# Altium integrated library Analog Devices Data Converters Analog-to-Digital Converters.IntLib: 2404 symbols (part 70 of 346)
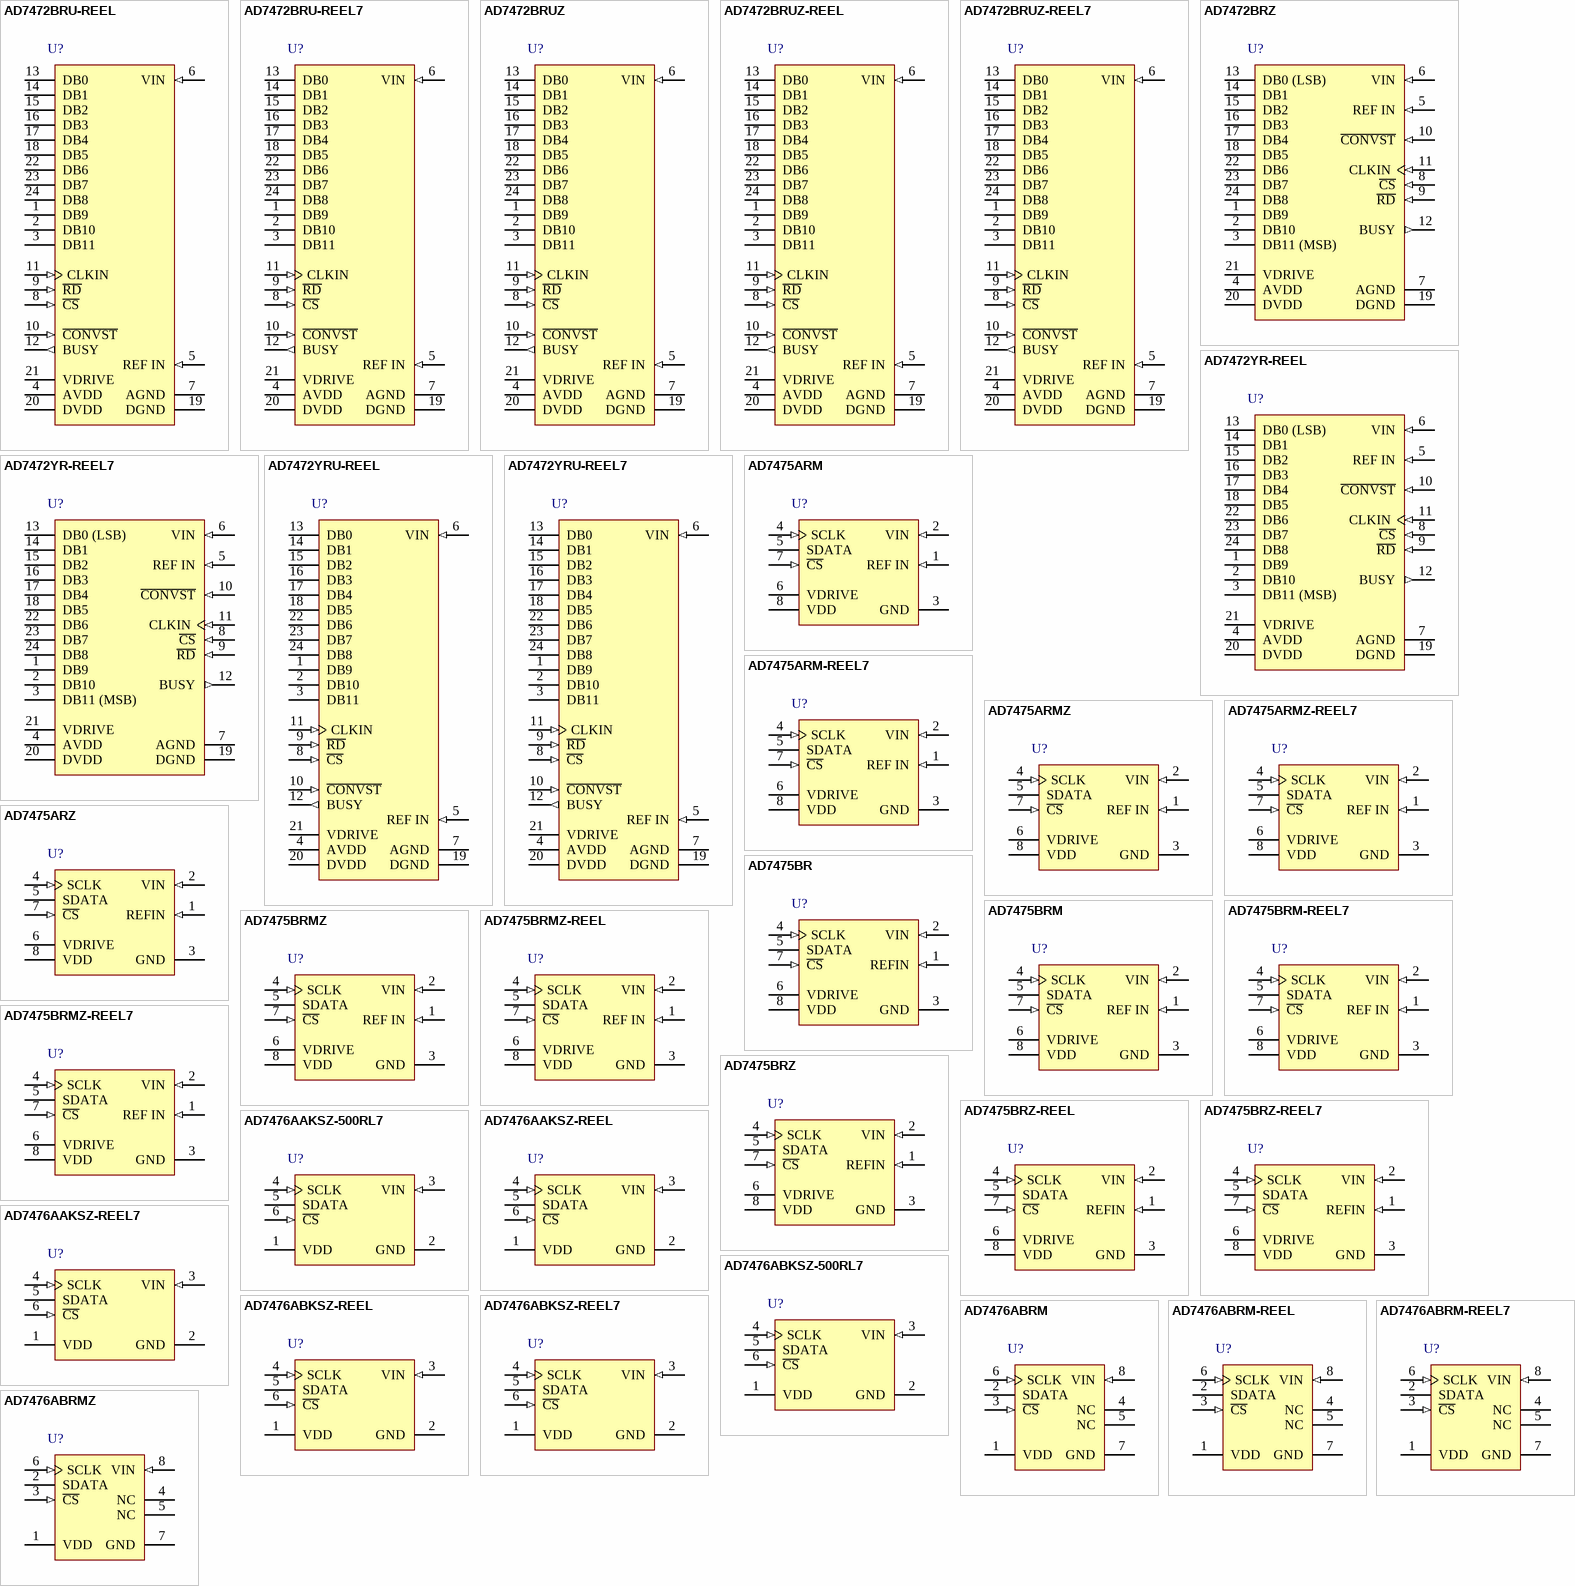
[diagram p193: symbols AD7472BRU-REEL to AD7476ABRMZ]

## AD7472YRU-REEL7
designator U?
Single 12-Bit Analog-to-Digital Converter with Parallel Interface, 4 mW, 1.5MSPS, -40 to +125 degC, RU-24, Reel; Generic Part Number: AD7472; Manufacturer: Analog Devices; PartNumber: AD7472YRU-REEL7; Resolution (Bits): 12; Channels: 1; Throughput Rate (SPS): 1.5M; Interface: Par; DatasheetVersion: Rev.B; PackageVersion: 2002; PackageReference: RU-24; PackageDescription: 24-Lead Thin Shrink Small Outline Package [TSSOP]; Supplier 1: Digi-Key; Supplier Part Number 1: AD7472YRU-REEL7TR-ND; Supplier 2: Digi-Key; Supplier Part Number 2: AD7472YRU-REEL7CT-ND; Supplier 3: Digi-Key; Supplier Part Number 3: AD7472YRU-REEL7DKR-ND; Supplier 4: Mouser; Supplier Part Number 4: 584-AD7472YRU-R7; RoHS: N; Packing: Reel; Mounting Technology: Surface Mount; Code_JEDEC: MO-153-AD; ComponentLink1Description: Manufacturer URL; ComponentLink1URL: http://www.analog.com/en/index.html; ComponentLink2Description: Datasheet; ComponentLink2URL: http://www.analog.com/static/imported-files/data_sheets/AD7470_7472.pdf; ComponentLink3Description: Package Specification; ComponentLink3URL: http://www.analog.com/static/imported-files/packages/380523655245964505593671154107510036154RU24.pdf; ComponentLink4Description: Product URL; ComponentLink4URL: http://www.analog.com/en/analog-to-digital-converters/ad-converters/ad7472/products/product.html
footprint RU-24_N (TSOP, 24-Leads, Body 7.8x4.4mm, Pitch 0.65mm, IPC Medium Density)
footprint RU-24_L (TSOP, 24-Leads, Body 7.8x4.4mm, Pitch 0.65mm, IPC High Density)
footprint RU-24_M (TSOP, 24-Leads, Body 7.8x4.4mm, Pitch 0.65mm, IPC Low Density)
pins: 1 DB9 (hiz) "Parallel digital outputs that provide the conversion result for the part. These are three-state outputs that are controlled by C\S\ and R\D\. The output high voltage level for these outputs is determined by the VDRIVE input.", 2 DB10 (hiz) "Parallel digital outputs that provide the conversion result for the part. These are three-state outputs that are controlled by C\S\ and R\D\. The output high voltage level for these outputs is determined by the VDRIVE input.", 3 DB11 (hiz) "Parallel digital outputs that provide the conversion result for the part. These are three-state outputs that are controlled by C\S\ and R\D\. The output high voltage level for these outputs is determined by the VDRIVE input.", 4 AVDD (power) "Analog Supply Voltage, 2.7 V to 5.25 V. This is the only supply voltage for all analog circuitry on the AD7472. The AVDD and DVDD voltages should ideally be at the same potential and must not be more than 0.3 V apart even on (See Datasheet)", 5 REF IN (in) "Reference Input. An external reference must be applied to this input. The voltage range for the external reference is 2.5 V +/-1% for specified performance.", 6 VIN (in) "Analog Input. Single-ended analog input channel. The input range is 0 V to REF IN. The analog input presents a high dc input impedance.", 7 AGND (power) "Analog Ground. Ground reference point for all analog circuitry on the AD7472. All analog input signals and any external reference signal should be referred to this AGND voltage. The AGND and DGND voltages should ideally be (See Datasheet)", 8 ~{CS} (in) "Chip Select. Active low logic input used in conjunction with R\D\ to access the conversion result. The conversion result is placed on the data bus following the falling edge of both C\S\ and R\D\. C\S\ and R\D\ are both (See Datasheet)", 9 ~{RD} (in) "Read Input. Logic input used in conjunction with C\S\ to access the conversion result. The conversion result is placed on the data bus following the falling edge of both C\S\ and R\D\. C\S\ and R\D\ are both connected to (See Datasheet)", 10 ~{CONVST} (in) "Conversion Start Input. Logic input used to initiate conversion. The input track-and-hold amplifier goes from track mode to hold mode on the falling edge of C\O\N\V\S\T\, and the conversion process is initiated at this point.(See Datasheet)", 11 CLKIN (in) "Master Clock Input. The clock source for the conversion process is applied to this pin. Conversion time for the AD7472 takes 14 clock cycles, and conversion time for the AD7470 takes 12 clock cycles. The frequency of this (See Datasheet)", 12 BUSY (out) "BUSY Output. Logic output indicating the status of the conversion process. The BUSY signal goes high after the falling edge of C\O\N\V\S\T\ and stays high for the duration of conversion. Once conversion is complete and the (See Datasheet)", 13 DB0 (hiz) "Parallel digital outputs that provide the conversion result for the part. These are three-state outputs that are controlled by C\S\ and R\D\. The output high voltage level for these outputs is determined by the VDRIVE input.", 14 DB1 (hiz) "Parallel digital outputs that provide the conversion result for the part. These are three-state outputs that are controlled by C\S\ and R\D\. The output high voltage level for these outputs is determined by the VDRIVE input.", 15 DB2 (hiz) "Parallel digital outputs that provide the conversion result for the part. These are three-state outputs that are controlled by C\S\ and R\D\. The output high voltage level for these outputs is determined by the VDRIVE input.", 16 DB3 (hiz) "Parallel digital outputs that provide the conversion result for the part. These are three-state outputs that are controlled by C\S\ and R\D\. The output high voltage level for these outputs is determined by the VDRIVE input.", 17 DB4 (hiz) "Parallel digital outputs that provide the conversion result for the part. These are three-state outputs that are controlled by C\S\ and R\D\. The output high voltage level for these outputs is determined by the VDRIVE input.", 18 DB5 (hiz) "Parallel digital outputs that provide the conversion result for the part. These are three-state outputs that are controlled by C\S\ and R\D\. The output high voltage level for these outputs is determined by the VDRIVE input.", 19 DGND (power) "Digital Ground. This is the ground reference point for all digital circuitry on the AD7472. The DGND and AGND voltages should ideally be at the same potential and must not be more than 0.3 V apart even on a transient basis.", 20 DVDD (power) "Digital Supply Voltage, 2.7 V to 5.25 V. This is the supply voltage for all digital circuitry on the AD7472 aside from the output drivers. The DVDD and AVDD voltages should ideally be at the same potential and must not be (See Datasheet)", 21 VDRIVE (power) "Supply Voltage for the Output Drivers, 2.7 V to 5.25 V. This voltage determines the output high voltage for the data output pins. It allows AVDD and DVDD to operate at 5 V (and maximize the dynamic performance of the (ADC), (See Datasheet)", 22 DB6 (hiz) "Parallel digital outputs that provide the conversion result for the part. These are three-state outputs that are controlled by C\S\ and R\D\. The output high voltage level for these outputs is determined by the VDRIVE input.", 23 DB7 (hiz) "Parallel digital outputs that provide the conversion result for the part. These are three-state outputs that are controlled by C\S\ and R\D\. The output high voltage level for these outputs is determined by the VDRIVE input.", 24 DB8 (hiz) "Parallel digital outputs that provide the conversion result for the part. These are three-state outputs that are controlled by C\S\ and R\D\. The output high voltage level for these outputs is determined by the VDRIVE input."

## AD7475ARM
designator U?
Single 12-Bit Analog-to-Digital Converter with Serial Interface, 1MSPS, -40 to +85 degC, RM-8, Tube; Generic Part Number: AD7475; Manufacturer: Analog Devices; PartNumber: AD7475ARM; Resolution (Bits): 12; Channels: 1; Throughput Rate (SPS): 1M; Interface: Ser; DatasheetVersion: Rev.B; PackageVersion: Aug-2005; PackageReference: RM-8; PackageDescription: 8-Lead Mini Small Outline Package [MSOP]; Supplier 1: Digi-Key; Supplier Part Number 1: AD7475ARM-ND; RoHS: N; Packing: Tube; Mounting Technology: Surface Mount; Code_JEDEC: MO-187-AA; ComponentLink1Description: Manufacturer URL; ComponentLink1URL: http://www.analog.com/en/index.html; ComponentLink2Description: Datasheet; ComponentLink2URL: http://www.analog.com/static/imported-files/data_sheets/AD7475_7495.pdf; ComponentLink3Description: Package Specification; ComponentLink3URL: http://www.analog.com/static/imported-files/packages/PKG_PDF/MSOP%28RM%29/RM_8.pdf; ComponentLink4Description: Product URL; ComponentLink4URL: http://www.analog.com/en/analog-to-digital-converters/ad-converters/ad7475/products/product.html
footprint RM-8_N (TSOP, 8-Leads, Body 3x3mm, Pitch 0.65mm, IPC Medium Density)
footprint RM-8_L (TSOP, 8-Leads, Body 3x3mm, Pitch 0.65mm, IPC High Density)
footprint RM-8_M (TSOP, 8-Leads, Body 3x3mm, Pitch 0.65mm, IPC Low Density)
pins: 1 REF IN (in) "Reference Input for the AD7475. An external reference must be applied to this input. The voltage range for the external reference is 2.5 V +/- 1% for specified performance. A cap of a least 0.1 uF should be placed on the REF (See Datasheet)", 2 VIN (in) "Analog Input. Single-ended analog input channel. The input range is 0 to REF IN.", 3 GND (power) "Analog Ground. Ground reference point for all circuitry on the AD7475/AD7495. All analog input signals and any external reference signal should be referred to this GND voltage.", 4 SCLK (in) "Serial Clock, Logic Input. SCLK provides the serial clock for accessing data from the part. This clock input is also used as the clock source for the AD7475/AD7495 conversion process.", 5 SDATA (hiz) "Data Out, Logic Output. The conversion result from the AD7475/AD7495 is provided on this output as a serial data stream. The bits are clocked out on the falling edge of the SCLK input. The data stream consists of four (See Datasheet)", 6 VDRIVE (power) "Logic Power Supply Input. The voltage supplied at this pin determines the operating voltage for the serial interface of the AD7475/AD7495.", 7 ~{CS} (in) "Chip Select, Active Low Logic Input. This input provides the dual function of initiating conversions on the AD7475/AD7495 and also frames the serial data transfer.", 8 VDD (power) "Power Supply Input. The VDD range for the AD7475/AD7495 is from 2.7 V to 5.25 V."

## AD7475ARM-REEL7
designator U?
Single 12-Bit Analog-to-Digital Converter with Serial Interface, 1MSPS, -40 to +85 degC, RM-8, Reel; Generic Part Number: AD7475; Manufacturer: Analog Devices; PartNumber: AD7475ARM-REEL7; Resolution (Bits): 12; Channels: 1; Throughput Rate (SPS): 1M; Interface: Ser; DatasheetVersion: Rev.B; PackageVersion: Aug-2005; PackageReference: RM-8; PackageDescription: 8-Lead Mini Small Outline Package [MSOP]; Supplier 1: Digi-Key; Supplier Part Number 1: AD7475ARM-REEL7-ND; RoHS: N; Packing: Reel; Mounting Technology: Surface Mount; Code_JEDEC: MO-187-AA; ComponentLink1Description: Manufacturer URL; ComponentLink1URL: http://www.analog.com/en/index.html; ComponentLink2Description: Datasheet; ComponentLink2URL: http://www.analog.com/static/imported-files/data_sheets/AD7475_7495.pdf; ComponentLink3Description: Package Specification; ComponentLink3URL: http://www.analog.com/static/imported-files/packages/PKG_PDF/MSOP%28RM%29/RM_8.pdf; ComponentLink4Description: Product URL; ComponentLink4URL: http://www.analog.com/en/analog-to-digital-converters/ad-converters/ad7475/products/product.html
footprint RM-8_N (TSOP, 8-Leads, Body 3x3mm, Pitch 0.65mm, IPC Medium Density)
footprint RM-8_L (TSOP, 8-Leads, Body 3x3mm, Pitch 0.65mm, IPC High Density)
footprint RM-8_M (TSOP, 8-Leads, Body 3x3mm, Pitch 0.65mm, IPC Low Density)
pins: 1 REF IN (in) "Reference Input for the AD7475. An external reference must be applied to this input. The voltage range for the external reference is 2.5 V +/- 1% for specified performance. A cap of a least 0.1 uF should be placed on the REF (See Datasheet)", 2 VIN (in) "Analog Input. Single-ended analog input channel. The input range is 0 to REF IN.", 3 GND (power) "Analog Ground. Ground reference point for all circuitry on the AD7475/AD7495. All analog input signals and any external reference signal should be referred to this GND voltage.", 4 SCLK (in) "Serial Clock, Logic Input. SCLK provides the serial clock for accessing data from the part. This clock input is also used as the clock source for the AD7475/AD7495 conversion process.", 5 SDATA (hiz) "Data Out, Logic Output. The conversion result from the AD7475/AD7495 is provided on this output as a serial data stream. The bits are clocked out on the falling edge of the SCLK input. The data stream consists of four (See Datasheet)", 6 VDRIVE (power) "Logic Power Supply Input. The voltage supplied at this pin determines the operating voltage for the serial interface of the AD7475/AD7495.", 7 ~{CS} (in) "Chip Select, Active Low Logic Input. This input provides the dual function of initiating conversions on the AD7475/AD7495 and also frames the serial data transfer.", 8 VDD (power) "Power Supply Input. The VDD range for the AD7475/AD7495 is from 2.7 V to 5.25 V."

## AD7475ARMZ
designator U?
Single 12-Bit Analog-to-Digital Converter with Serial Interface, 1MSPS, -40 to +85 degC, RM-8, Pb-Free, Tube; Generic Part Number: AD7475; Manufacturer: Analog Devices; PartNumber: AD7475ARMZ; Resolution (Bits): 12; Channels: 1; Throughput Rate (SPS): 1M; Interface: Ser; DatasheetVersion: Rev.B; PackageVersion: Aug-2005; PackageReference: RM-8; PackageDescription: 8-Lead Mini Small Outline Package [MSOP]; Supplier 1: Digi-Key; Supplier Part Number 1: AD7475ARMZ-ND; Supplier 2: Mouser; Supplier Part Number 2: 584-AD7475ARMZ; RoHS: Y; Packing: Tube; Mounting Technology: Surface Mount; Code_JEDEC: MO-187-AA; ComponentLink1Description: Manufacturer URL; ComponentLink1URL: http://www.analog.com/en/index.html; ComponentLink2Description: Datasheet; ComponentLink2URL: http://www.analog.com/static/imported-files/data_sheets/AD7475_7495.pdf; ComponentLink3Description: Package Specification; ComponentLink3URL: http://www.analog.com/static/imported-files/packages/PKG_PDF/MSOP%28RM%29/RM_8.pdf; ComponentLink4Description: Product URL; ComponentLink4URL: http://www.analog.com/en/analog-to-digital-converters/ad-converters/ad7475/products/product.html
footprint RM-8_N (TSOP, 8-Leads, Body 3x3mm, Pitch 0.65mm, IPC Medium Density)
footprint RM-8_L (TSOP, 8-Leads, Body 3x3mm, Pitch 0.65mm, IPC High Density)
footprint RM-8_M (TSOP, 8-Leads, Body 3x3mm, Pitch 0.65mm, IPC Low Density)
pins: 1 REF IN (in) "Reference Input for the AD7475. An external reference must be applied to this input. The voltage range for the external reference is 2.5 V +/- 1% for specified performance. A cap of a least 0.1 uF should be placed on the REF (See Datasheet)", 2 VIN (in) "Analog Input. Single-ended analog input channel. The input range is 0 to REF IN.", 3 GND (power) "Analog Ground. Ground reference point for all circuitry on the AD7475/AD7495. All analog input signals and any external reference signal should be referred to this GND voltage.", 4 SCLK (in) "Serial Clock, Logic Input. SCLK provides the serial clock for accessing data from the part. This clock input is also used as the clock source for the AD7475/AD7495 conversion process.", 5 SDATA (hiz) "Data Out, Logic Output. The conversion result from the AD7475/AD7495 is provided on this output as a serial data stream. The bits are clocked out on the falling edge of the SCLK input. The data stream consists of four (See Datasheet)", 6 VDRIVE (power) "Logic Power Supply Input. The voltage supplied at this pin determines the operating voltage for the serial interface of the AD7475/AD7495.", 7 ~{CS} (in) "Chip Select, Active Low Logic Input. This input provides the dual function of initiating conversions on the AD7475/AD7495 and also frames the serial data transfer.", 8 VDD (power) "Power Supply Input. The VDD range for the AD7475/AD7495 is from 2.7 V to 5.25 V."

## AD7475ARMZ-REEL7
designator U?
Single 12-Bit Analog-to-Digital Converter with Serial Interface, 1MSPS, -40 to +85 degC, RM-8, Pb-Free, Reel; Generic Part Number: AD7475; Manufacturer: Analog Devices; PartNumber: AD7475ARMZ-REEL7; Resolution (Bits): 12; Channels: 1; Throughput Rate (SPS): 1M; Interface: Ser; DatasheetVersion: Rev.B; PackageVersion: Aug-2005; PackageReference: RM-8; PackageDescription: 8-Lead Mini Small Outline Package [MSOP]; Supplier 1: Digi-Key; Supplier Part Number 1: AD7475ARMZ-REEL7TR-ND; Supplier 2: Digi-Key; Supplier Part Number 2: AD7475ARMZ-REEL7CT-ND; Supplier 3: Digi-Key; Supplier Part Number 3: AD7475ARMZ-REEL7DKR-ND; Supplier 4: Mouser; Supplier Part Number 4: 584-AD7475ARMZ-R7; RoHS: Y; Packing: Reel; Mounting Technology: Surface Mount; Code_JEDEC: MO-187-AA; ComponentLink1Description: Manufacturer URL; ComponentLink1URL: http://www.analog.com/en/index.html; ComponentLink2Description: Datasheet; ComponentLink2URL: http://www.analog.com/static/imported-files/data_sheets/AD7475_7495.pdf; ComponentLink3Description: Package Specification; ComponentLink3URL: http://www.analog.com/static/imported-files/packages/PKG_PDF/MSOP%28RM%29/RM_8.pdf; ComponentLink4Description: Product URL; ComponentLink4URL: http://www.analog.com/en/analog-to-digital-converters/ad-converters/ad7475/products/product.html
footprint RM-8_N (TSOP, 8-Leads, Body 3x3mm, Pitch 0.65mm, IPC Medium Density)
footprint RM-8_L (TSOP, 8-Leads, Body 3x3mm, Pitch 0.65mm, IPC High Density)
footprint RM-8_M (TSOP, 8-Leads, Body 3x3mm, Pitch 0.65mm, IPC Low Density)
pins: 1 REF IN (in) "Reference Input for the AD7475. An external reference must be applied to this input. The voltage range for the external reference is 2.5 V +/- 1% for specified performance. A cap of a least 0.1 uF should be placed on the REF (See Datasheet)", 2 VIN (in) "Analog Input. Single-ended analog input channel. The input range is 0 to REF IN.", 3 GND (power) "Analog Ground. Ground reference point for all circuitry on the AD7475/AD7495. All analog input signals and any external reference signal should be referred to this GND voltage.", 4 SCLK (in) "Serial Clock, Logic Input. SCLK provides the serial clock for accessing data from the part. This clock input is also used as the clock source for the AD7475/AD7495 conversion process.", 5 SDATA (hiz) "Data Out, Logic Output. The conversion result from the AD7475/AD7495 is provided on this output as a serial data stream. The bits are clocked out on the falling edge of the SCLK input. The data stream consists of four (See Datasheet)", 6 VDRIVE (power) "Logic Power Supply Input. The voltage supplied at this pin determines the operating voltage for the serial interface of the AD7475/AD7495.", 7 ~{CS} (in) "Chip Select, Active Low Logic Input. This input provides the dual function of initiating conversions on the AD7475/AD7495 and also frames the serial data transfer.", 8 VDD (power) "Power Supply Input. The VDD range for the AD7475/AD7495 is from 2.7 V to 5.25 V."

## AD7475ARZ
designator U?
Single 12-Bit Analog-to-Digital Converter with Serial Interface, 1MSPS, -40 to +85 degC, R-8, Pb-Free, Tube; Generic Part Number: AD7475; Manufacturer: Analog Devices; PartNumber: AD7475ARZ; Resolution (Bits): 12; Channels: 1; Throughput Rate (SPS): 1M; Interface: Ser; DatasheetVersion: Rev.B; PackageVersion: 060506-A; PackageReference: R-8; PackageDescription: 8-Lead Standard Small Outline Package [SOIC_N] Narrow Body; Supplier 1: Digi-Key; Supplier Part Number 1: AD7475ARZ-ND; Supplier 2: Newark; Supplier Part Number 2: 59K4880; Supplier 3: Mouser; Supplier Part Number 3: 584-AD7475ARZ; RoHS: Y; Packing: Tube; Mounting Technology: Surface Mount; Code_JEDEC: MS-012-AA; Code_IPC: SOIC127P600-8; ComponentLink1Description: Manufacturer URL; ComponentLink1URL: http://www.analog.com/en/index.html; ComponentLink2Description: Datasheet; ComponentLink2URL: http://www.analog.com/static/imported-files/data_sheets/AD7475_7495.pdf; ComponentLink3Description: Package Specification; ComponentLink3URL: http://www.analog.com/static/imported-files/packages/PKG_PDF/SOIC_Narrow%20(R)/R_8.pdf; ComponentLink4Description: Product URL; ComponentLink4URL: http://www.analog.com/en/analog-to-digital-converters/ad-converters/ad7475/products/product.html
footprint R-8_N (SOIC, 8-Leads, Body 4.9x3.9mm, Pitch 1.27mm, IPC Medium Density)
footprint R-8_L (SOIC, 8-Leads, Body 4.9x3.9mm, Pitch 1.27mm, IPC High Density)
footprint R-8_M (SOIC, 8-Leads, Body 4.9x3.9mm, Pitch 1.27mm, IPC Low Density)
pins: 1 REFIN (in) "Reference Input for the AD7475. An external reference must be applied to this input. The voltage range for the external reference is 2.5 V +/- 1% for specified performance. A cap of a least 0.1 uF should be placed on the REF (See Datasheet)", 2 VIN (in) "Analog Input. Single-ended analog input channel. The input range is 0 to REF IN.", 3 GND (power) "Analog Ground. Ground reference point for all circuitry on the AD7475. All analog input signals and any external reference signal should be referred to this GND voltage.", 4 SCLK (in) "Serial Clock, Logic Input. SCLK provides the serial clock for accessing data from the part. This clock input is also used as the clock source for the AD7475 conversion process.", 5 SDATA (hiz) "Data Out, Logic Output. The conversion result from the AD7475 is provided on this output as a serial data stream. The bits are clocked out on the falling edge of the SCLK input. The data stream consists of four leading zeros (See Datasheet)", 6 VDRIVE (power) "Logic Power Supply Input. The voltage supplied at this pin determines the operating voltage for the serial interface of the AD7475.", 7 ~{CS} (in) "Chip Select, Active Low Logic Input. This input provides the dual function of initiating conversions on the AD7475 and also frames the serial data transfer.", 8 VDD (power) "Power Supply Input. The VDD range for the AD7475 is from 2.7 V to 5.25 V."

## AD7475BR
designator U?
Single 12-Bit Analog-to-Digital Converter with Serial Interface, 1MSPS, -40 to +85 degC, R-8, Tube; Generic Part Number: AD7475; Manufacturer: Analog Devices; PartNumber: AD7475BR; Resolution (Bits): 12; Channels: 1; Throughput Rate (SPS): 1M; Interface: Ser; DatasheetVersion: Rev.B; PackageVersion: 060506-A; PackageReference: R-8; PackageDescription: 8-Lead Standard Small Outline Package [SOIC_N] Narrow Body; Supplier 1: Digi-Key; Supplier Part Number 1: AD7475BR-ND; Supplier 2: Mouser; Supplier Part Number 2: 584-AD7475BR; RoHS: N; Packing: Tube; Mounting Technology: Surface Mount; Code_JEDEC: MS-012-AA; Code_IPC: SOIC127P600-8; ComponentLink1Description: Manufacturer URL; ComponentLink1URL: http://www.analog.com/en/index.html; ComponentLink2Description: Datasheet; ComponentLink2URL: http://www.analog.com/static/imported-files/data_sheets/AD7475_7495.pdf; ComponentLink3Description: Package Specification; ComponentLink3URL: http://www.analog.com/static/imported-files/packages/PKG_PDF/SOIC_Narrow%20(R)/R_8.pdf; ComponentLink4Description: Product URL; ComponentLink4URL: http://www.analog.com/en/analog-to-digital-converters/ad-converters/ad7475/products/product.html
footprint R-8_N (SOIC, 8-Leads, Body 4.9x3.9mm, Pitch 1.27mm, IPC Medium Density)
footprint R-8_L (SOIC, 8-Leads, Body 4.9x3.9mm, Pitch 1.27mm, IPC High Density)
footprint R-8_M (SOIC, 8-Leads, Body 4.9x3.9mm, Pitch 1.27mm, IPC Low Density)
pins: 1 REFIN (in) "Reference Input for the AD7475. An external reference must be applied to this input. The voltage range for the external reference is 2.5 V +/- 1% for specified performance. A cap of a least 0.1 uF should be placed on the REF (See Datasheet)", 2 VIN (in) "Analog Input. Single-ended analog input channel. The input range is 0 to REF IN.", 3 GND (power) "Analog Ground. Ground reference point for all circuitry on the AD7475. All analog input signals and any external reference signal should be referred to this GND voltage.", 4 SCLK (in) "Serial Clock, Logic Input. SCLK provides the serial clock for accessing data from the part. This clock input is also used as the clock source for the AD7475 conversion process.", 5 SDATA (hiz) "Data Out, Logic Output. The conversion result from the AD7475 is provided on this output as a serial data stream. The bits are clocked out on the falling edge of the SCLK input. The data stream consists of four leading zeros (See Datasheet)", 6 VDRIVE (power) "Logic Power Supply Input. The voltage supplied at this pin determines the operating voltage for the serial interface of the AD7475.", 7 ~{CS} (in) "Chip Select, Active Low Logic Input. This input provides the dual function of initiating conversions on the AD7475 and also frames the serial data transfer.", 8 VDD (power) "Power Supply Input. The VDD range for the AD7475 is from 2.7 V to 5.25 V."

## AD7475BRM
designator U?
Single 12-Bit Analog-to-Digital Converter with Serial Interface, 1MSPS, -40 to +85 degC, RM-8, Tube; Generic Part Number: AD7475; Manufacturer: Analog Devices; PartNumber: AD7475BRM; Resolution (Bits): 12; Channels: 1; Throughput Rate (SPS): 1M; Interface: Ser; DatasheetVersion: Rev.B; PackageVersion: Aug-2005; PackageReference: RM-8; PackageDescription: 8-Lead Mini Small Outline Package [MSOP]; Supplier 1: Digi-Key; Supplier Part Number 1: AD7475BRM-ND; RoHS: N; Packing: Tube; Mounting Technology: Surface Mount; Code_JEDEC: MO-187-AA; ComponentLink1Description: Manufacturer URL; ComponentLink1URL: http://www.analog.com/en/index.html; ComponentLink2Description: Datasheet; ComponentLink2URL: http://www.analog.com/static/imported-files/data_sheets/AD7475_7495.pdf; ComponentLink3Description: Package Specification; ComponentLink3URL: http://www.analog.com/static/imported-files/packages/PKG_PDF/MSOP%28RM%29/RM_8.pdf; ComponentLink4Description: Product URL; ComponentLink4URL: http://www.analog.com/en/analog-to-digital-converters/ad-converters/ad7475/products/product.html
footprint RM-8_N (TSOP, 8-Leads, Body 3x3mm, Pitch 0.65mm, IPC Medium Density)
footprint RM-8_L (TSOP, 8-Leads, Body 3x3mm, Pitch 0.65mm, IPC High Density)
footprint RM-8_M (TSOP, 8-Leads, Body 3x3mm, Pitch 0.65mm, IPC Low Density)
pins: 1 REF IN (in) "Reference Input for the AD7475. An external reference must be applied to this input. The voltage range for the external reference is 2.5 V +/- 1% for specified performance. A cap of a least 0.1 uF should be placed on the REF (See Datasheet)", 2 VIN (in) "Analog Input. Single-ended analog input channel. The input range is 0 to REF IN.", 3 GND (power) "Analog Ground. Ground reference point for all circuitry on the AD7475/AD7495. All analog input signals and any external reference signal should be referred to this GND voltage.", 4 SCLK (in) "Serial Clock, Logic Input. SCLK provides the serial clock for accessing data from the part. This clock input is also used as the clock source for the AD7475/AD7495 conversion process.", 5 SDATA (hiz) "Data Out, Logic Output. The conversion result from the AD7475/AD7495 is provided on this output as a serial data stream. The bits are clocked out on the falling edge of the SCLK input. The data stream consists of four (See Datasheet)", 6 VDRIVE (power) "Logic Power Supply Input. The voltage supplied at this pin determines the operating voltage for the serial interface of the AD7475/AD7495.", 7 ~{CS} (in) "Chip Select, Active Low Logic Input. This input provides the dual function of initiating conversions on the AD7475/AD7495 and also frames the serial data transfer.", 8 VDD (power) "Power Supply Input. The VDD range for the AD7475/AD7495 is from 2.7 V to 5.25 V."

## AD7475BRM-REEL7
designator U?
Single 12-Bit Analog-to-Digital Converter with Serial Interface, 1MSPS, -40 to +85 degC, RM-8, Reel; Generic Part Number: AD7475; Manufacturer: Analog Devices; PartNumber: AD7475BRM-REEL7; Resolution (Bits): 12; Channels: 1; Throughput Rate (SPS): 1M; Interface: Ser; DatasheetVersion: Rev.B; PackageVersion: Aug-2005; PackageReference: RM-8; PackageDescription: 8-Lead Mini Small Outline Package [MSOP]; Supplier 1: Digi-Key; Supplier Part Number 1: AD7475BRM-REEL7TR-ND; Supplier 2: Digi-Key; Supplier Part Number 2: AD7475BRM-REEL7CT-ND; Supplier 3: Digi-Key; Supplier Part Number 3: AD7475BRM-REEL7DKR-ND; Supplier 4: Mouser; Supplier Part Number 4: 584-AD7475BRM-R7; RoHS: N; Packing: Reel; Mounting Technology: Surface Mount; Code_JEDEC: MO-187-AA; ComponentLink1Description: Manufacturer URL; ComponentLink1URL: http://www.analog.com/en/index.html; ComponentLink2Description: Datasheet; ComponentLink2URL: http://www.analog.com/static/imported-files/data_sheets/AD7475_7495.pdf; ComponentLink3Description: Package Specification; ComponentLink3URL: http://www.analog.com/static/imported-files/packages/PKG_PDF/MSOP%28RM%29/RM_8.pdf; ComponentLink4Description: Product URL; ComponentLink4URL: http://www.analog.com/en/analog-to-digital-converters/ad-converters/ad7475/products/product.html
footprint RM-8_N (TSOP, 8-Leads, Body 3x3mm, Pitch 0.65mm, IPC Medium Density)
footprint RM-8_L (TSOP, 8-Leads, Body 3x3mm, Pitch 0.65mm, IPC High Density)
footprint RM-8_M (TSOP, 8-Leads, Body 3x3mm, Pitch 0.65mm, IPC Low Density)
pins: 1 REF IN (in) "Reference Input for the AD7475. An external reference must be applied to this input. The voltage range for the external reference is 2.5 V +/- 1% for specified performance. A cap of a least 0.1 uF should be placed on the REF (See Datasheet)", 2 VIN (in) "Analog Input. Single-ended analog input channel. The input range is 0 to REF IN.", 3 GND (power) "Analog Ground. Ground reference point for all circuitry on the AD7475/AD7495. All analog input signals and any external reference signal should be referred to this GND voltage.", 4 SCLK (in) "Serial Clock, Logic Input. SCLK provides the serial clock for accessing data from the part. This clock input is also used as the clock source for the AD7475/AD7495 conversion process.", 5 SDATA (hiz) "Data Out, Logic Output. The conversion result from the AD7475/AD7495 is provided on this output as a serial data stream. The bits are clocked out on the falling edge of the SCLK input. The data stream consists of four (See Datasheet)", 6 VDRIVE (power) "Logic Power Supply Input. The voltage supplied at this pin determines the operating voltage for the serial interface of the AD7475/AD7495.", 7 ~{CS} (in) "Chip Select, Active Low Logic Input. This input provides the dual function of initiating conversions on the AD7475/AD7495 and also frames the serial data transfer.", 8 VDD (power) "Power Supply Input. The VDD range for the AD7475/AD7495 is from 2.7 V to 5.25 V."

## AD7475BRMZ
designator U?
Single 12-Bit Analog-to-Digital Converter with Serial Interface, 1MSPS, -40 to +85 degC, RM-8, Pb-Free, Tube; Generic Part Number: AD7475; Manufacturer: Analog Devices; PartNumber: AD7475BRMZ; Resolution (Bits): 12; Channels: 1; Throughput Rate (SPS): 1M; Interface: Ser; DatasheetVersion: Rev.B; PackageVersion: Aug-2005; PackageReference: RM-8; PackageDescription: 8-Lead Mini Small Outline Package [MSOP]; Supplier 1: Digi-Key; Supplier Part Number 1: AD7475BRMZ-ND; Supplier 2: Mouser; Supplier Part Number 2: 584-AD7475BRMZ; RoHS: Y; Packing: Tube; Mounting Technology: Surface Mount; Code_JEDEC: MO-187-AA; ComponentLink1Description: Manufacturer URL; ComponentLink1URL: http://www.analog.com/en/index.html; ComponentLink2Description: Datasheet; ComponentLink2URL: http://www.analog.com/static/imported-files/data_sheets/AD7475_7495.pdf; ComponentLink3Description: Package Specification; ComponentLink3URL: http://www.analog.com/static/imported-files/packages/PKG_PDF/MSOP%28RM%29/RM_8.pdf; ComponentLink4Description: Product URL; ComponentLink4URL: http://www.analog.com/en/analog-to-digital-converters/ad-converters/ad7475/products/product.html
footprint RM-8_N (TSOP, 8-Leads, Body 3x3mm, Pitch 0.65mm, IPC Medium Density)
footprint RM-8_L (TSOP, 8-Leads, Body 3x3mm, Pitch 0.65mm, IPC High Density)
footprint RM-8_M (TSOP, 8-Leads, Body 3x3mm, Pitch 0.65mm, IPC Low Density)
pins: 1 REF IN (in) "Reference Input for the AD7475. An external reference must be applied to this input. The voltage range for the external reference is 2.5 V +/- 1% for specified performance. A cap of a least 0.1 uF should be placed on the REF (See Datasheet)", 2 VIN (in) "Analog Input. Single-ended analog input channel. The input range is 0 to REF IN.", 3 GND (power) "Analog Ground. Ground reference point for all circuitry on the AD7475/AD7495. All analog input signals and any external reference signal should be referred to this GND voltage.", 4 SCLK (in) "Serial Clock, Logic Input. SCLK provides the serial clock for accessing data from the part. This clock input is also used as the clock source for the AD7475/AD7495 conversion process.", 5 SDATA (hiz) "Data Out, Logic Output. The conversion result from the AD7475/AD7495 is provided on this output as a serial data stream. The bits are clocked out on the falling edge of the SCLK input. The data stream consists of four (See Datasheet)", 6 VDRIVE (power) "Logic Power Supply Input. The voltage supplied at this pin determines the operating voltage for the serial interface of the AD7475/AD7495.", 7 ~{CS} (in) "Chip Select, Active Low Logic Input. This input provides the dual function of initiating conversions on the AD7475/AD7495 and also frames the serial data transfer.", 8 VDD (power) "Power Supply Input. The VDD range for the AD7475/AD7495 is from 2.7 V to 5.25 V."

## AD7475BRMZ-REEL
designator U?
Single 12-Bit Analog-to-Digital Converter with Serial Interface, 1MSPS, -40 to +85 degC, RM-8, Pb-Free, Reel; Generic Part Number: AD7475; Manufacturer: Analog Devices; PartNumber: AD7475BRMZ-REEL; Resolution (Bits): 12; Channels: 1; Throughput Rate (SPS): 1M; Interface: Ser; DatasheetVersion: Rev.B; PackageVersion: Aug-2005; PackageReference: RM-8; PackageDescription: 8-Lead Mini Small Outline Package [MSOP]; Supplier 1: Digi-Key; Supplier Part Number 1: AD7475BRMZ-REEL-ND; Supplier 2: Mouser; Supplier Part Number 2: 584-AD7475BRMZ-R; RoHS: Y; Packing: Reel; Mounting Technology: Surface Mount; Code_JEDEC: MO-187-AA; ComponentLink1Description: Manufacturer URL; ComponentLink1URL: http://www.analog.com/en/index.html; ComponentLink2Description: Datasheet; ComponentLink2URL: http://www.analog.com/static/imported-files/data_sheets/AD7475_7495.pdf; ComponentLink3Description: Package Specification; ComponentLink3URL: http://www.analog.com/static/imported-files/packages/PKG_PDF/MSOP%28RM%29/RM_8.pdf; ComponentLink4Description: Product URL; ComponentLink4URL: http://www.analog.com/en/analog-to-digital-converters/ad-converters/ad7475/products/product.html
footprint RM-8_N (TSOP, 8-Leads, Body 3x3mm, Pitch 0.65mm, IPC Medium Density)
footprint RM-8_L (TSOP, 8-Leads, Body 3x3mm, Pitch 0.65mm, IPC High Density)
footprint RM-8_M (TSOP, 8-Leads, Body 3x3mm, Pitch 0.65mm, IPC Low Density)
pins: 1 REF IN (in) "Reference Input for the AD7475. An external reference must be applied to this input. The voltage range for the external reference is 2.5 V +/- 1% for specified performance. A cap of a least 0.1 uF should be placed on the REF (See Datasheet)", 2 VIN (in) "Analog Input. Single-ended analog input channel. The input range is 0 to REF IN.", 3 GND (power) "Analog Ground. Ground reference point for all circuitry on the AD7475/AD7495. All analog input signals and any external reference signal should be referred to this GND voltage.", 4 SCLK (in) "Serial Clock, Logic Input. SCLK provides the serial clock for accessing data from the part. This clock input is also used as the clock source for the AD7475/AD7495 conversion process.", 5 SDATA (hiz) "Data Out, Logic Output. The conversion result from the AD7475/AD7495 is provided on this output as a serial data stream. The bits are clocked out on the falling edge of the SCLK input. The data stream consists of four (See Datasheet)", 6 VDRIVE (power) "Logic Power Supply Input. The voltage supplied at this pin determines the operating voltage for the serial interface of the AD7475/AD7495.", 7 ~{CS} (in) "Chip Select, Active Low Logic Input. This input provides the dual function of initiating conversions on the AD7475/AD7495 and also frames the serial data transfer.", 8 VDD (power) "Power Supply Input. The VDD range for the AD7475/AD7495 is from 2.7 V to 5.25 V."

## AD7475BRMZ-REEL7
designator U?
Single 12-Bit Analog-to-Digital Converter with Serial Interface, 1MSPS, -40 to +85 degC, RM-8, Pb-Free, Reel; Generic Part Number: AD7475; Manufacturer: Analog Devices; PartNumber: AD7475BRMZ-REEL7; Resolution (Bits): 12; Channels: 1; Throughput Rate (SPS): 1M; Interface: Ser; DatasheetVersion: Rev.B; PackageVersion: Aug-2005; PackageReference: RM-8; PackageDescription: 8-Lead Mini Small Outline Package [MSOP]; Supplier 1: Digi-Key; Supplier Part Number 1: AD7475BRMZ-REEL7-ND; Supplier 2: Mouser; Supplier Part Number 2: 584-AD7475BRMZ-R7; RoHS: Y; Packing: Reel; Mounting Technology: Surface Mount; Code_JEDEC: MO-187-AA; ComponentLink1Description: Manufacturer URL; ComponentLink1URL: http://www.analog.com/en/index.html; ComponentLink2Description: Datasheet; ComponentLink2URL: http://www.analog.com/static/imported-files/data_sheets/AD7475_7495.pdf; ComponentLink3Description: Package Specification; ComponentLink3URL: http://www.analog.com/static/imported-files/packages/PKG_PDF/MSOP%28RM%29/RM_8.pdf; ComponentLink4Description: Product URL; ComponentLink4URL: http://www.analog.com/en/analog-to-digital-converters/ad-converters/ad7475/products/product.html
footprint RM-8_N (TSOP, 8-Leads, Body 3x3mm, Pitch 0.65mm, IPC Medium Density)
footprint RM-8_L (TSOP, 8-Leads, Body 3x3mm, Pitch 0.65mm, IPC High Density)
footprint RM-8_M (TSOP, 8-Leads, Body 3x3mm, Pitch 0.65mm, IPC Low Density)
pins: 1 REF IN (in) "Reference Input for the AD7475. An external reference must be applied to this input. The voltage range for the external reference is 2.5 V +/- 1% for specified performance. A cap of a least 0.1 uF should be placed on the REF (See Datasheet)", 2 VIN (in) "Analog Input. Single-ended analog input channel. The input range is 0 to REF IN.", 3 GND (power) "Analog Ground. Ground reference point for all circuitry on the AD7475/AD7495. All analog input signals and any external reference signal should be referred to this GND voltage.", 4 SCLK (in) "Serial Clock, Logic Input. SCLK provides the serial clock for accessing data from the part. This clock input is also used as the clock source for the AD7475/AD7495 conversion process.", 5 SDATA (hiz) "Data Out, Logic Output. The conversion result from the AD7475/AD7495 is provided on this output as a serial data stream. The bits are clocked out on the falling edge of the SCLK input. The data stream consists of four (See Datasheet)", 6 VDRIVE (power) "Logic Power Supply Input. The voltage supplied at this pin determines the operating voltage for the serial interface of the AD7475/AD7495.", 7 ~{CS} (in) "Chip Select, Active Low Logic Input. This input provides the dual function of initiating conversions on the AD7475/AD7495 and also frames the serial data transfer.", 8 VDD (power) "Power Supply Input. The VDD range for the AD7475/AD7495 is from 2.7 V to 5.25 V."

## AD7475BRZ
designator U?
Single 12-Bit Analog-to-Digital Converter with Serial Interface, 1MSPS, -40 to +85 degC, R-8, Pb-Free, Tube; Generic Part Number: AD7475; Manufacturer: Analog Devices; PartNumber: AD7475BRZ; Resolution (Bits): 12; Channels: 1; Throughput Rate (SPS): 1M; Interface: Ser; DatasheetVersion: Rev.B; PackageVersion: 060506-A; PackageReference: R-8; PackageDescription: 8-Lead Standard Small Outline Package [SOIC_N] Narrow Body; Supplier 1: Digi-Key; Supplier Part Number 1: AD7475BRZ-ND; Supplier 2: Mouser; Supplier Part Number 2: 584-AD7475BRZ; RoHS: Y; Packing: Tube; Mounting Technology: Surface Mount; Code_JEDEC: MS-012-AA; Code_IPC: SOIC127P600-8; ComponentLink1Description: Manufacturer URL; ComponentLink1URL: http://www.analog.com/en/index.html; ComponentLink2Description: Datasheet; ComponentLink2URL: http://www.analog.com/static/imported-files/data_sheets/AD7475_7495.pdf; ComponentLink3Description: Package Specification; ComponentLink3URL: http://www.analog.com/static/imported-files/packages/PKG_PDF/SOIC_Narrow%20(R)/R_8.pdf; ComponentLink4Description: Product URL; ComponentLink4URL: http://www.analog.com/en/analog-to-digital-converters/ad-converters/ad7475/products/product.html
footprint R-8_N (SOIC, 8-Leads, Body 4.9x3.9mm, Pitch 1.27mm, IPC Medium Density)
footprint R-8_L (SOIC, 8-Leads, Body 4.9x3.9mm, Pitch 1.27mm, IPC High Density)
footprint R-8_M (SOIC, 8-Leads, Body 4.9x3.9mm, Pitch 1.27mm, IPC Low Density)
pins: 1 REFIN (in) "Reference Input for the AD7475. An external reference must be applied to this input. The voltage range for the external reference is 2.5 V +/- 1% for specified performance. A cap of a least 0.1 uF should be placed on the REF (See Datasheet)", 2 VIN (in) "Analog Input. Single-ended analog input channel. The input range is 0 to REF IN.", 3 GND (power) "Analog Ground. Ground reference point for all circuitry on the AD7475. All analog input signals and any external reference signal should be referred to this GND voltage.", 4 SCLK (in) "Serial Clock, Logic Input. SCLK provides the serial clock for accessing data from the part. This clock input is also used as the clock source for the AD7475 conversion process.", 5 SDATA (hiz) "Data Out, Logic Output. The conversion result from the AD7475 is provided on this output as a serial data stream. The bits are clocked out on the falling edge of the SCLK input. The data stream consists of four leading zeros (See Datasheet)", 6 VDRIVE (power) "Logic Power Supply Input. The voltage supplied at this pin determines the operating voltage for the serial interface of the AD7475.", 7 ~{CS} (in) "Chip Select, Active Low Logic Input. This input provides the dual function of initiating conversions on the AD7475 and also frames the serial data transfer.", 8 VDD (power) "Power Supply Input. The VDD range for the AD7475 is from 2.7 V to 5.25 V."

## AD7475BRZ-REEL
designator U?
Single 12-Bit Analog-to-Digital Converter with Serial Interface, 1MSPS, 0 to +70 degC, R-8, Pb-Free, Reel; Generic Part Number: AD7475; Manufacturer: Analog Devices; PartNumber: AD7475BRZ-REEL; Resolution (Bits): 12; Channels: 1; Throughput Rate (SPS): 1M; Interface: Ser; DatasheetVersion: Rev.B; PackageVersion: 060506-A; PackageReference: R-8; PackageDescription: 8-Lead Standard Small Outline Package [SOIC_N] Narrow Body; Supplier 1: Digi-Key; Supplier Part Number 1: AD7475BRZ-REEL-ND; Supplier 2: Mouser; Supplier Part Number 2: 584-AD7475BRZ-R; RoHS: Y; Packing: Reel; Mounting Technology: Surface Mount; Code_JEDEC: MS-012-AA; Code_IPC: SOIC127P600-8; ComponentLink1Description: Manufacturer URL; ComponentLink1URL: http://www.analog.com/en/index.html; ComponentLink2Description: Datasheet; ComponentLink2URL: http://www.analog.com/static/imported-files/data_sheets/AD7475_7495.pdf; ComponentLink3Description: Package Specification; ComponentLink3URL: http://www.analog.com/static/imported-files/packages/PKG_PDF/SOIC_Narrow%20(R)/R_8.pdf; ComponentLink4Description: Product URL; ComponentLink4URL: http://www.analog.com/en/analog-to-digital-converters/ad-converters/ad7475/products/product.html
footprint R-8_N (SOIC, 8-Leads, Body 4.9x3.9mm, Pitch 1.27mm, IPC Medium Density)
footprint R-8_L (SOIC, 8-Leads, Body 4.9x3.9mm, Pitch 1.27mm, IPC High Density)
footprint R-8_M (SOIC, 8-Leads, Body 4.9x3.9mm, Pitch 1.27mm, IPC Low Density)
pins: 1 REFIN (in) "Reference Input for the AD7475. An external reference must be applied to this input. The voltage range for the external reference is 2.5 V +/- 1% for specified performance. A cap of a least 0.1 uF should be placed on the REF (See Datasheet)", 2 VIN (in) "Analog Input. Single-ended analog input channel. The input range is 0 to REF IN.", 3 GND (power) "Analog Ground. Ground reference point for all circuitry on the AD7475. All analog input signals and any external reference signal should be referred to this GND voltage.", 4 SCLK (in) "Serial Clock, Logic Input. SCLK provides the serial clock for accessing data from the part. This clock input is also used as the clock source for the AD7475 conversion process.", 5 SDATA (hiz) "Data Out, Logic Output. The conversion result from the AD7475 is provided on this output as a serial data stream. The bits are clocked out on the falling edge of the SCLK input. The data stream consists of four leading zeros (See Datasheet)", 6 VDRIVE (power) "Logic Power Supply Input. The voltage supplied at this pin determines the operating voltage for the serial interface of the AD7475.", 7 ~{CS} (in) "Chip Select, Active Low Logic Input. This input provides the dual function of initiating conversions on the AD7475 and also frames the serial data transfer.", 8 VDD (power) "Power Supply Input. The VDD range for the AD7475 is from 2.7 V to 5.25 V."

## AD7475BRZ-REEL7
designator U?
Single 12-Bit Analog-to-Digital Converter with Serial Interface, 1MSPS, 0 to +70 degC, R-8, Pb-Free, Reel; Generic Part Number: AD7475; Manufacturer: Analog Devices; PartNumber: AD7475BRZ-REEL7; Resolution (Bits): 12; Channels: 1; Throughput Rate (SPS): 1M; Interface: Ser; DatasheetVersion: Rev.B; PackageVersion: 060506-A; PackageReference: R-8; PackageDescription: 8-Lead Standard Small Outline Package [SOIC_N] Narrow Body; Supplier 1: Digi-Key; Supplier Part Number 1: AD7475BRZ-REEL7-ND; Supplier 2: Mouser; Supplier Part Number 2: 584-AD7475BRZ-R7; RoHS: Y; Packing: Reel; Mounting Technology: Surface Mount; Code_JEDEC: MS-012-AA; Code_IPC: SOIC127P600-8; ComponentLink1Description: Manufacturer URL; ComponentLink1URL: http://www.analog.com/en/index.html; ComponentLink2Description: Datasheet; ComponentLink2URL: http://www.analog.com/static/imported-files/data_sheets/AD7475_7495.pdf; ComponentLink3Description: Package Specification; ComponentLink3URL: http://www.analog.com/static/imported-files/packages/PKG_PDF/SOIC_Narrow%20(R)/R_8.pdf; ComponentLink4Description: Product URL; ComponentLink4URL: http://www.analog.com/en/analog-to-digital-converters/ad-converters/ad7475/products/product.html
footprint R-8_N (SOIC, 8-Leads, Body 4.9x3.9mm, Pitch 1.27mm, IPC Medium Density)
footprint R-8_L (SOIC, 8-Leads, Body 4.9x3.9mm, Pitch 1.27mm, IPC High Density)
footprint R-8_M (SOIC, 8-Leads, Body 4.9x3.9mm, Pitch 1.27mm, IPC Low Density)
pins: 1 REFIN (in) "Reference Input for the AD7475. An external reference must be applied to this input. The voltage range for the external reference is 2.5 V +/- 1% for specified performance. A cap of a least 0.1 uF should be placed on the REF (See Datasheet)", 2 VIN (in) "Analog Input. Single-ended analog input channel. The input range is 0 to REF IN.", 3 GND (power) "Analog Ground. Ground reference point for all circuitry on the AD7475. All analog input signals and any external reference signal should be referred to this GND voltage.", 4 SCLK (in) "Serial Clock, Logic Input. SCLK provides the serial clock for accessing data from the part. This clock input is also used as the clock source for the AD7475 conversion process.", 5 SDATA (hiz) "Data Out, Logic Output. The conversion result from the AD7475 is provided on this output as a serial data stream. The bits are clocked out on the falling edge of the SCLK input. The data stream consists of four leading zeros (See Datasheet)", 6 VDRIVE (power) "Logic Power Supply Input. The voltage supplied at this pin determines the operating voltage for the serial interface of the AD7475.", 7 ~{CS} (in) "Chip Select, Active Low Logic Input. This input provides the dual function of initiating conversions on the AD7475 and also frames the serial data transfer.", 8 VDD (power) "Power Supply Input. The VDD range for the AD7475 is from 2.7 V to 5.25 V."